# Altium footprint library MLCC-1210.PcbLib: 6 footprints
Each footprint in its own frame and in the unit in brackets; x right, y up, seen from the top. Pads: shape width x height; smd on the part's side, far side on the other; paste and mask are expansions set on the pad; w line width, h text height; cw(c..) or ccw(c..) is an arc to the next point about the centre after c.
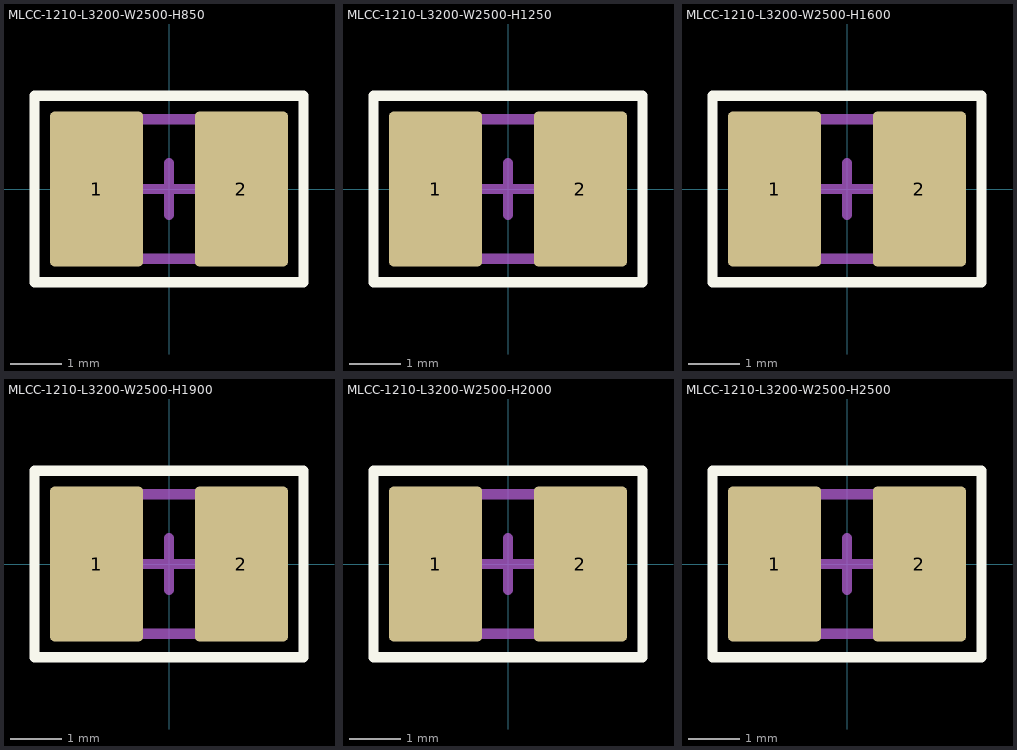
[diagram p0: the footprints below, top view; thin cyan lines are the x and y axes]

## MLCC-1210-L3200-W2500-H850 [mm] "Chip Multilayer Ceramic Capacitor, 1210 Thickness 0.85mm, Overlay Border"
height 0.85
pads (2):
  rrect10% 1.8x3 smd: 1(-1.4,0) 2(1.4,0)
Top Overlay:
  lines w0.2: -2.6,-1.8 2.6,-1.8 2.6,1.8 -2.6,1.8 -2.6,-1.8
Top Courtyard:
  lines w0.1: -2.6,-1.8 2.6,-1.8 2.6,1.8 -2.6,1.8 -2.6,-1.8
  lines w0.2: -0.5,0 0.5,0 ; 0,-0.5 0,0.5
Top Assembly:
  lines w0.2: -1.7,-1.35 -1.7,1.35 1.7,1.35 1.7,-1.35 -1.7,-1.35
3D body "SMD_CCAP_1210-H850.STEP": height 0.85, standoff 0, extent -1.6,-1.25 1.6,1.25

## MLCC-1210-L3200-W2500-H1250 [mm] "Chip Multilayer Ceramic Capacitor, 1210 Thickness 1.25mm, Overlay Border"
height 1.25
pads (2):
  rrect10% 1.8x3 smd: 1(-1.4,0) 2(1.4,0)
Top Overlay:
  lines w0.2: -2.6,-1.8 -2.6,1.8 2.6,1.8 2.6,-1.8 -2.6,-1.8
Top Courtyard:
  lines w0.1: -2.6,-1.8 -2.6,1.8 2.6,1.8 2.6,-1.8 -2.6,-1.8
  lines w0.2: -0.5,0 0.5,0 ; 0,-0.5 0,0.5
Top Assembly:
  lines w0.2: -1.7,-1.35 1.7,-1.35 1.7,1.35 -1.7,1.35 -1.7,-1.35
3D body "SMD_CCAP_1210-H1250.STEP": height 1.25, standoff 0, extent -1.6,-1.25 1.6,1.25

## MLCC-1210-L3200-W2500-H1600 [mm] "Chip Multilayer Ceramic Capacitor, 1210 Thickness 1.6mm, Overlay Border"
height 1.6
pads (2):
  rrect10% 1.8x3 smd: 1(-1.4,0) 2(1.4,0)
Top Overlay:
  lines w0.2: -2.6,-1.8 2.6,-1.8 2.6,1.8 -2.6,1.8 -2.6,-1.8
Top Courtyard:
  lines w0.1: -2.6,-1.8 2.6,-1.8 2.6,1.8 -2.6,1.8 -2.6,-1.8
  lines w0.2: -0.5,0 0.5,0 ; 0,-0.5 0,0.5
Top Assembly:
  lines w0.2: -1.7,-1.35 -1.7,1.35 1.7,1.35 1.7,-1.35 -1.7,-1.35
3D body "SMD_CCAP_1210-H1600.STEP": height 1.6, standoff 0, extent -1.6,-1.25 1.6,1.25

## MLCC-1210-L3200-W2500-H1900 [mm] "Chip Multilayer Ceramic Capacitor, 1210 Thickness 1.9mm, Overlay Border"
height 1.9
pads (2):
  rrect10% 1.8x3 smd: 1(-1.4,0) 2(1.4,0)
Top Overlay:
  lines w0.2: -2.6,-1.8 2.6,-1.8 2.6,1.8 -2.6,1.8 -2.6,-1.8
Top Courtyard:
  lines w0.1: -2.6,-1.8 2.6,-1.8 2.6,1.8 -2.6,1.8 -2.6,-1.8
  lines w0.2: -0.5,0 0.5,0 ; 0,-0.5 0,0.5
Top Assembly:
  lines w0.2: -1.7,-1.35 -1.7,1.35 1.7,1.35 1.7,-1.35 -1.7,-1.35
3D body "SMD_CCAP_1210-H1900.STEP": height 1.9, standoff 0, extent -1.6,-1.25 1.6,1.25

## MLCC-1210-L3200-W2500-H2000 [mm] "Chip Multilayer Ceramic Capacitor, 1210 Thickness 2.0mm, Overlay Border"
height 2
pads (2):
  rrect10% 1.8x3 smd: 1(-1.4,0) 2(1.4,0)
Top Overlay:
  lines w0.2: -2.6,-1.8 2.6,-1.8 2.6,1.8 -2.6,1.8 -2.6,-1.8
Top Courtyard:
  lines w0.1: -2.6,-1.8 2.6,-1.8 2.6,1.8 -2.6,1.8 -2.6,-1.8
  lines w0.2: -0.5,0 0.5,0 ; 0,-0.5 0,0.5
Top Assembly:
  lines w0.2: -1.7,-1.35 -1.7,1.35 1.7,1.35 1.7,-1.35 -1.7,-1.35
3D body "SMD_CCAP_1210-H2000.STEP": height 2, standoff 0, extent -1.6,-1.25 1.6,1.25

## MLCC-1210-L3200-W2500-H2500 [mm] "Chip Multilayer Ceramic Capacitor, 1210 Thickness 2.5mm, Overlay Border"
height 2.5
pads (2):
  rrect10% 1.8x3 smd: 1(-1.4,0) 2(1.4,0)
Top Overlay:
  lines w0.2: -2.6,-1.8 -2.6,1.8 2.6,1.8 2.6,-1.8 -2.6,-1.8
Top Courtyard:
  lines w0.1: -2.6,-1.8 -2.6,1.8 2.6,1.8 2.6,-1.8 -2.6,-1.8
  lines w0.2: -0.5,0 0.5,0 ; 0,-0.5 0,0.5
Top Assembly:
  lines w0.2: -1.7,-1.35 1.7,-1.35 1.7,1.35 -1.7,1.35 -1.7,-1.35
3D body "SMD_CCAP_1210-H2500.STEP": height 2.5, standoff 0, extent -1.6,-1.25 1.6,1.25